# Altium schematic symbol library Power_unit-RM.SCHLIB: 24 symbols
Pins are listed as number, name and electrical type; pins without a type are passive.

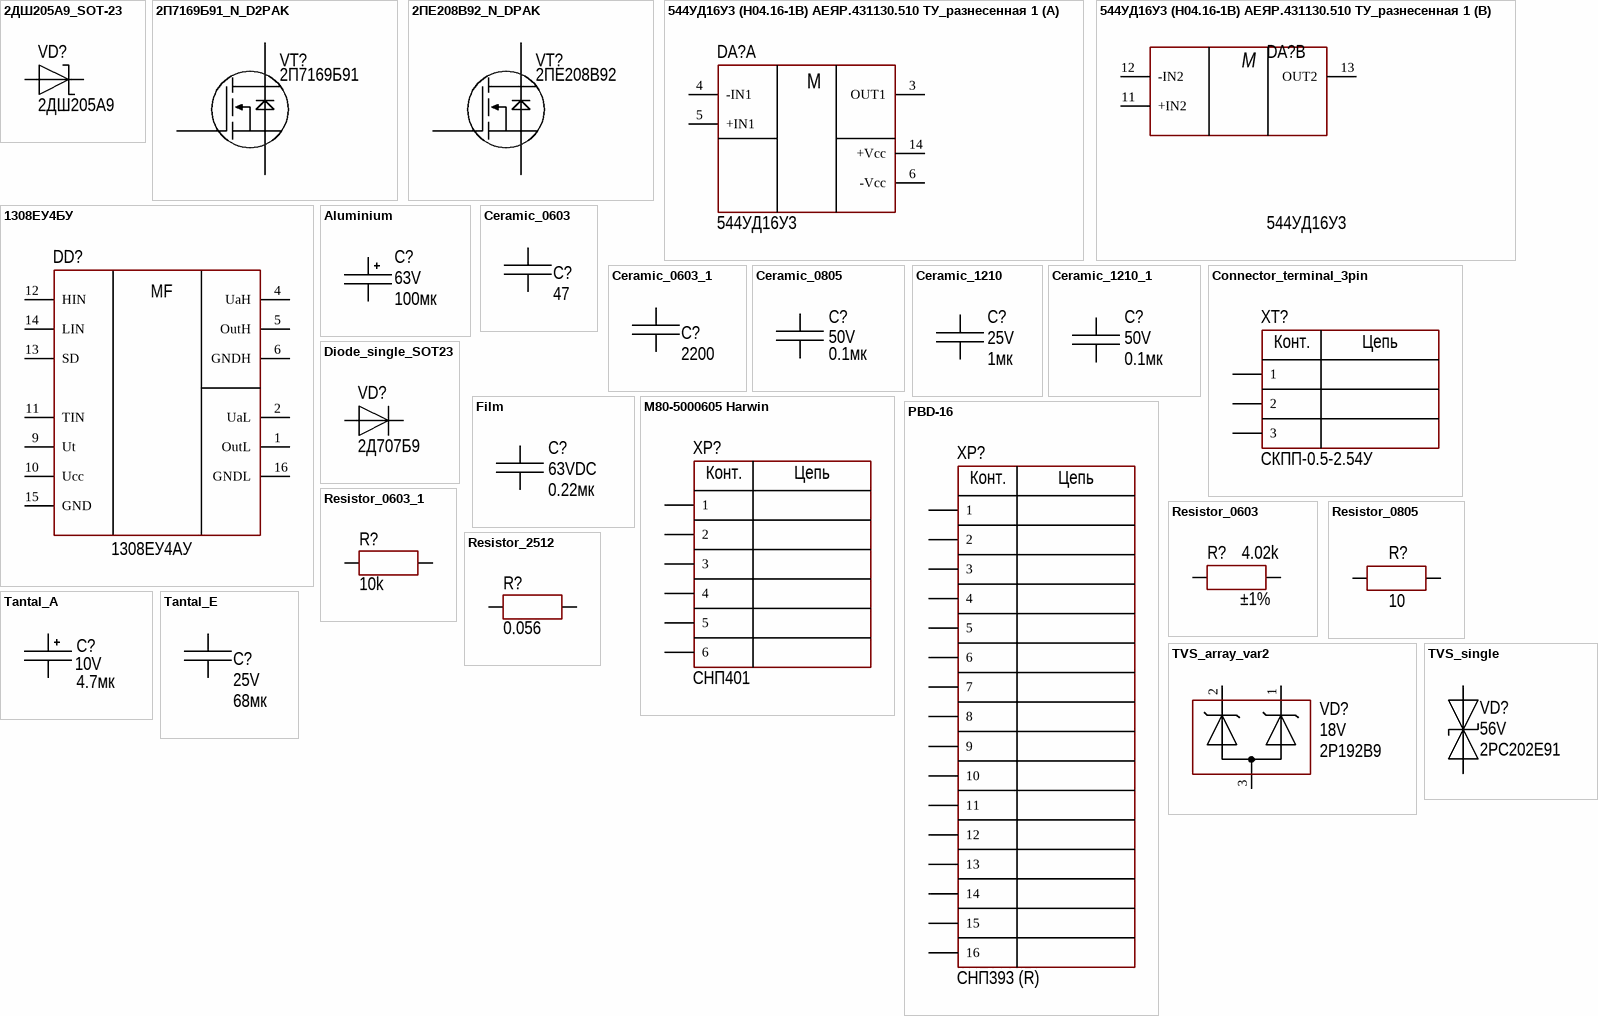
[diagram p0: symbols 2ДШ205А9_SOT-23 to TVS_single]

## 2ДШ205А9_SOT-23
designator VD?  PartNumber: 2ДШ205А9
Manufacturer: ВЗПП Воронеж; ValueManufacturerPartNumber: shottki diode, 80V, 500mA; max 5 A@1ms, 0.8V, <22ns, SOT-23, -55...+150°C; TypeDiode: shottki diode; Voltage: 80V; Current: 500mA; max 5 A@1ms; VoltageDrop: 0.8V; RecoveryTime: <22ns; Analog: MBR0580; Package: SOT-23; Temperature: -55...+150°C
footprint SOT23
pins: 1 A, 3 K

## 2П7169Б91_N_D2PAK
designator VT?  PartNumber: 2П7169Б91
Ангстрем (ВП); ValueManufacturerPartNumber: MOSFET N-channel transistor, 100V, 30A@+100°C, 110nC, 3.8W, 36mOhm, 1900pF, D2PAK (KT-90), -55...+150°C; TypeTransistor: MOSFET N-channel transistor; VoltageDS: 100V; CurrentDS: 30A@+100°C; RDS: 36mOhm; GateCharge: 110nC; InputCapacitor: 1900pF; MaxPower: 3.8W; Analog: IRF1310NS; Manufacturer: Ангстрем; Package: D2PAK (KT-90); HelpURL: https://www.infineon.com/dgdl/irf1310nspbf.pdf?fileId=5546d462533600a4015355dab12918a0; Temperature: -55...+150°C
footprint D2PAK_123 (Standart pinout)
pins: 1 G, 2 D, 3 S

## 2ПЕ208В92_N_DPAK
designator VT?  PartNumber: 2ПЕ208В92
Ангстрем (ВП); ValueManufacturerPartNumber: MOSFET N-channel transistor, 100V, 32A@+25°C, 59nC, 2.5W, 45mOhm, 3200pF, DPAK (KT-89), -55...+150°C; TypeTransistor: MOSFET N-channel transistor; VoltageDS: 100V; CurrentDS: 32A@+25°C; RDS: 45mOhm; GateCharge: 59nC; InputCapacitor: 3200pF; MaxPower: 2.5W; Analog: AnD28N10; Manufacturer: Ангстрем; Package: DPAK (KT-89); HelpURL: https://angstrem.ru/ru/and28n10; Temperature: -55...+150°C
footprint DPAK
footprint DPAK
pins: 1 G, 2 S, 3 D

## 544УД16У3 (Н04.16-1В) АЕЯР.431130.510 ТУ_разнесенная 1
designator DA?  Part_Number: 544УД16У3  (hidden comment: 544УД16У3 (Н04.16-1В) АЕЯР.431130.510 ТУ_разнесенная 1)
Op. Amp rail-to-rail; Manufacturer: НПП "Восток"; Pattern/Footprint: 16-Н04.16-1B; MAX: 00135502; Analog: OP284FS; TU: АЕЯР.431130.510 ТУ; Publisher: Sokolov; Published: 2019; HelpURL: http://www.vostok.nsk.su/files/pdf/544UD16U3.pdf; Type: Операционный усилитель
footprint 16-Н04.16-1B (USSR)
part A pins: 1 NC hidden, 2 NC hidden, 3 OUT1, 4 -IN1, 5 +IN1, 6 -Vcc (power), 7 NC hidden, 8 NC hidden, 9 NC hidden, 10 NC hidden, 14 +Vcc (power), 15 NC hidden, 16 NC hidden
part B pins: 11 +IN2, 12 -IN2, 13 OUT2
part A text: M
part B text: M

## 1308ЕУ4БУ
designator DD?  PartNumber: 1308ЕУ4АУ
Gate driver; Manufacturer: Кремний Эл; VoltageSupply: supply 4...15V; CurrentOutput: 2A; Analog: IR2113 IR; MAX: 00131005; HelpURL: http://caxapa.ru/parts/files/1SHKtJ3.pdf; Package: Н04.16-2В; ComponentType: Hight&Low side gate driver; ValueManufacturerPartNumber: =ComponentType+', '+VoltageWork+', '+Frequency+', '+CurrentOutput+', '+VoltageSupply+', '+Temperature+', '+Package
footprint 16-Н04.16-1B (USSR)
pins: 1 OutL, 2 UaL, 4 UaH, 5 OutH, 6 GNDH, 9 Ut, 10 Ucc, 11 TIN, 12 HIN, 13 SD, 14 LIN, 15 GND, 16 GNDL
text: MF

## Aluminium
designator C?  value 100мк  Voltage: 63V
Manufacturer: Элеконд; PartNumber: K50-93-63В-100мкФ ±20% -И-В АЖЯР.673541.021 ТУ; ValueManufacturerPartNumber: Aluminium capacitor, 100мк, 63V, ±20%, 0.342Ohm@100kHz, 8x11.3x3.5 mm, -60...+100°C; TypeCapacitor: Aluminium capacitor; Tolerance: ±20%; Impedance: 0.342Ohm@100kHz; MAX: 00139211; Package: 8x11.3x3.5 mm; HelpURL: https://elecond.ru/production/capacitors/aluminum/k50-93; Temperature: -60...+100°C
footprint CAP: D5C2H11
footprint CAP: D6.3C2.5H11
footprint CAP: D6.3C2.5H16
footprint CAP: D8C3.5H12
footprint CAP: D10C5H12.5
footprint CAP: D10C5H16
footprint CAP: D10C5H20
footprint CAP: D13C5H20
footprint CAP: D13C5H25
footprint CAP: D16C7.5H25
footprint CAP: D16C7.5H31.5
footprint CAP: D18C7.5H40
footprint CAP: D22C10.5H25
footprint CAP: D30C10.5H37
footprint CAP: D30C10.5H47
footprint CAP: D35C10.5H40
footprint CAP: D35C10.5H50
pins: 1 (power), 2 (power)

## Ceramic_0603
designator C?  value 47
Manufacturer: Монолит; PartNumber: К10-84в-1608М-50В-47 пФ ±10%-МП0-N-A; ValueManufacturerPartNumber: Ceramic capacitor, 47, МП0, ±10%, 50V, 0603, -55...+125°C; TypeCapacitor: Ceramic capacitor; Tolerance: ±10%; TypeDielectric: МП0; Voltage: 50V; Analog: 00124425 (pin-to-pin); Package: 0603; HelpURL: http://monolit.vitebsk.by/products/kondensatory/K1047Mabv/; Temperature: -55...+125°C
footprint CAP: 0603P (small var)
pins: 1 (power), 2 (power)

## Ceramic_0603_1
designator C?  value 2200
Manufacturer: Монолит; PartNumber: К10-84в-1608М-50В-2200 пФ ±10%-Н20-N-A; ValueManufacturerPartNumber: Ceramic capacitor, 2200, H20, ±10%, 50V, 0603, -55...+125°C; TypeCapacitor: Ceramic capacitor; Tolerance: ±10%; TypeDielectric: H20; Voltage: 50V; Analog: MAX 00132726 (pin-to-pin); Analog: MAX 00132726; Package: 0603; HelpURL: http://www.monolit.vitebsk.by/Files/K10-84.pdf; Temperature: -55...+125°C
footprint CAP: 0603P (small var)
pins: 1, 2 (power)

## Ceramic_0805
designator C?  value 0.1мк  Voltage: 50V
Manufacturer: Монолит; PartNumber: К10-84в-2012М-50В-0,1 мкФ +80/-20%-Н90-N-A; ValueManufacturerPartNumber: Ceramic capacitor, 0.1мк, Н90 (Y5V), +80 -20%, 50V, 0805 (2012), -55...+125°C; TypeCapacitor: Ceramic capacitor; Tolerance: +80 -20%; TypeDielectric: Н90 (Y5V); Analog: 00131672 (pin-to-pin); Package: 0805 (2012); HelpURL: http://monolit.vitebsk.by/products/kondensatory/K1084NOVYE/; Temperature: -55...+125°C
footprint CAP: 0805P (small footprint)
pins: 1 (power), 2 (power)

## Ceramic_1210
designator C?  value 1мк  Voltage: 25V
Manufacturer: Monolit; PartNumber: К10-84в-3225М-25~В-Н20-1 мкФ-O-A ±10% ФЦТА.673516.016 ТУ; ValueManufacturerPartNumber: Ceramic capacitor, 1мк, Н20 (X7R), ±10%, 25V, 1210, -55...+125°C; TypeCapacitor: Ceramic capacitor; Tolerance: ±10%; TypeDielectric: Н20 (X7R); Package: 1210; HelpURL: http://monolit.vitebsk.by/products/kondensatory/K1084NOVYE/; Temperature: -55...+125°C
footprint CAP: 1210
pins: 1 (power), 2 (power)

## Ceramic_1210_1
designator C?  value 0.1мк  Voltage: 50V
Manufacturer: Монолит; PartNumber: К10-84в-2012М-50В-0,1 мкФ +80/-20%-Н90-N-A; ValueManufacturerPartNumber: Ceramic capacitor, 0.1мк, Н20, ±10%, 50V, 0805,; TypeCapacitor: Ceramic capacitor; Tolerance: ±10%; TypeDielectric: Н20; Analog: MAX 00123747 (К10-17в - с1206); Package: 0805; HelpURL: http://www.monolit.vitebsk.by/Files/K10-84.pdf
footprint CAP: 0805+1206 (совмещенный)
pins: 1, 2

## Connector_terminal_3pin
designator XT?  CommentText: СКПП-0.5-2.54У
Manufacturer: Завод Атлант; ValueManufacturerPartNumber: Terminal connector, 3pin, 3.5mm, 300VAC, 6A; PartNumber: СКПП-0.5-2.54У-3x2-2 СЦНК.434410.044 ТУ; TypeConnector: Terminal connector; VoltageMax: 300VAC; Pitch: 3.5mm; CurrentMax: 6A; Multichannel: 3pin; Analog: 233-403 Wago; HelpURL: http://xn--80aaagkp6are6bd.xn--p1ai/main/soediniteli_klemmnye/klemmy_dlja_pechatnogo_montazha/skpp_05_254u_1(24)h2_2(3)
footprint CON: DG350-3.5-03P
footprint CON: 233-403 WAGO (pcb terminal strip)
footprint CON: 236-403 WAGO (pcb terminal strip)
pins: 1, 2, 3 (power)
text: Конт.; Цепь

## Diode_single_SOT23
designator VD?  PartNumber: 2Д707Б9
Manufacturer: КРИП; ValueManufacturerPartNumber: fast Single diode, 80V, 200mA; max 1.5 A, 1V, 4ns, SOT-23, -55...+150°C; TypeDiode: fast Single diode; Voltage: 80V; Current: 200mA; max 1.5 A; VoltageDrop: 1V; RecoveryTime: 4ns; Analog: BAS16; Package: SOT-23; HelpURL: https://kriptehno.ru/wp-content/uploads/2018/09/short_cat_kriptehno.pdf; Temperature: -55...+150°C
footprint SOT23
pins: 1 A, 3 K

## Film
designator C?  value 0.22мк  Voltage: 63VDC
Manufacturer: Гириконд; PartNumber: K73-17-63В-0,22мкФ±10%-В АЖЯР.673633.004 ТУ; TypeCapacitor: Film capacitor; Tolerance: ±10%; Package: 12x10 mm; HelpURL: http://www.giricond.ru/files/k73-17_.pdf; ValueManufacturerPartNumber: =TypeCapacitor+', '+Value+', '+Voltage+', '+Tolerance+', '+Impedance+', '+Package+', '+Temperature; Temperature: -60...+125°C
footprint CAP: B32021
footprint CAP: B32521
footprint CAP: AY2102M29Y5US63L7
footprint CAP: B32522
footprint CAP: B32653A
footprint CAP: B32654
footprint CAP: B32674
footprint CAP: B32676
footprint CAP: B32774D (w=15mm)
footprint CAP: B32774D (w=22mm)
footprint CAP: B32923
footprint Model Name (Footprint not found)
footprint CAP: K73-17 12x10x6 (63V, 0.22uF)
pins: 1 (power), 2 (power)

## M80-5000605 Harwin
designator XP?  CommentText: СНП401
вилка на плату; Manufacturer: Электродеталь; ValueManufacturerPartNumber: Вилка, 6pin, 2mm, 120VAC, 1.5A; PartNumber: СНП401-6ВП21-4-1-1; VoltageMax: 120VAC; Pitch: 2mm; CurrentMax: 1.5A; Multichannel: 6pin; Analog: MAX 00126397 (M80-5000605 pin-to-pin); HelpURL: https://eu.mouser.com/ProductDetail/Harwin/M80-5000605?qs=yQtJ9TWM%2F1KaJIUUBEXorg%3D%3D; TypeConnector: Вилка
footprint CON: M80-5100605 (6 pin; Harwin)
pins: 1, 2, 3, 4, 5, 6
text: Конт.; Цепь

## PBD-16
designator XP?  CommentText: СНП393 (R)
Угловой; Manufacturer: Электродеталь; ValueManufacturerPartNumber: Connector, 16pin, 2.54mm, 500VAC, 3A; PartNumber: СНП393-16ВП31-2-01-5 РЮМК.430420.035 ТУ; TypeConnector: Connector; VoltageMax: 500VAC; Pitch: 2.54mm; CurrentMax: 3A; Multichannel: 16pin; Analog: MAX 000724477 (PLD-80R с доработкой до 16pin); HelpURL: https://www.elektrodetal.com/catalog/snp393/
footprint CON: PBD-16 (PBD-16)
footprint CON: PLD-16R
pins: 1, 2, 3, 4, 5, 6, 7, 8, 9, 10, 11, 12, 13, 14, 15, 16
text: Конт.; Цепь

## Resistor_0603
designator R?  value 4.02k  Tolerance: ±1%
Manufacturer: ОАО Ресурс; PartNumber: Р1-12-0,1ум.-4.02~кОм±1%-М ШКАБ.434110.002 ТУ; ValueManufacturerPartNumber: Resistor film, 4.02k, ±1%, 0603, 0.1W, -55...+125°C; TypeResistor: Resistor film; Power: 0.1W; MAX: 00134054; Package: 0603; HelpURL: https://aoresurs.com/catalog/chip_rezistory/rezistory-r1-12-kategoriya-kachestva-vp-/; Temperature: -55...+125°C
footprint RES: 0603P (small footprint)
pins: 1, 2

## Resistor_0603_1
designator R?  value 10k
Manufacturer: ОАО Ресурс; PartNumber: Р1-12-0,125-10~кОм ±1%-М ШКАБ.434110.002 ТУ; ValueManufacturerPartNumber: Resistor film, 10k, ±1%, 0805, 0.125W, -55...+125°C; TypeResistor: Resistor film; Power: 0.125W; Tolerance: ±1%; MAX: 00134578; Package: 0805; HelpURL: https://aoresurs.com/catalog/chip_rezistory/rezistory-r1-12-kategoriya-kachestva-vp-/; Temperature: -55...+125°C
pins: 1, 2

## Resistor_0805
designator R?  value 10
Manufacturer: ОАО Ресурс; PartNumber: Р1-12-0,125-10 Ом ±5%-М ШКАБ.434110.002 ТУ; ValueManufacturerPartNumber: Resistor film, 10, ±5%, 0805, 0.125W, -55...+125°C; TypeResistor: Resistor film; Power: 0.125W; Tolerance: ±5%; MAX: 00123032; Package: 0805; HelpURL: https://aoresurs.com/catalog/chip_rezistory/rezistory-r1-12-kategoriya-kachestva-vp-/; Temperature: -55...+125°C
footprint RES: 0805P (small footprint)
pins: 1, 2

## Resistor_2512
designator R?  value 0.056
PartNumber: Р1-105-0,75-0,056 Ом±1% А РМУ.434150.001 ТУ; ValueManufacturerPartNumber: Resistor film, 0.056, ±1%, 2512, 0.75W, -55...+125°C; TypeResistor: Resistor film; Power: 0.75W; Tolerance: ±1%; Package: 2512; HelpURL: https://www.digikey.com/product-detail/en/yageo/RC2512JK-07100RL/YAG3393CT-ND/5962215; Temperature: -55...+125°C
footprint RES: 2512
pins: 1, 2

## Tantal_A
designator C?  value 4.7мк  Voltage: 10V
Manufacturer: Элеконд; PartNumber: К53-68 "А"-10 В-4.7 мкф; ValueManufacturerPartNumber: Tantalum capacitor, 4.7мк, 10V, ±10%, 2Ohm, case A (3216), -55...+125°C; Impedance: 2Ohm; Tolerance: ±10%; TypeDielectric: X7R; TypeCapacitor: Tantalum capacitor; MAX: 00130629; Package: case A (3216); HelpURL: https://www.digikey.com/product-detail/en/avx-corporation/F930J107KAAAJ6/478-12404-1-ND/9645231; Temperature: -55...+125°C
footprint CAP: TANTAL-A
pins: 1 (power), 2 (power)

## Tantal_E
designator C?  value 68мк  Voltage: 25V
Manufacturer: Элеконд; PartNumber: К53-68 "E"-25 В-68 мкф ±10%; ValueManufacturerPartNumber: Tantalum capacitor, 68мк, 25V, ±10%, 900mOhm, case E, -60...+125°C; Impedance: 900mOhm; Tolerance: ±10%; TypeCapacitor: Tantalum capacitor; MAX: 00145468; Package: case E; HelpURL: https://eandc.ru/pdf/kondensator/k53-68.pdf; Temperature: -60...+125°C
footprint CAP: TANTAL-E
pins: 1 (power), 2 (power)

## TVS_array_var2
designator VD?  Voltage: 18V  PartNumber: 2Р192В9
Manufacturer: КРИП; TypeDiode: TVS diode; Current: 1A; Uогр.: 22.5V; Cap: 21pF; NOTE: указано для pin1-pin3; Analog: КР192А9 (ОТК) (pin-to-pin); Package: SOT-23; ValueManufacturerPartNumber: =TypeDiode+', '+Voltage+', '+Current+', '+VoltageDrop+', '+RecoveryTime+', '+Package+', '+Temperature; Temperature: -55...+150°C
footprint SOT23
pins: 1 K1, 2 K2, 3 A

## TVS_single
designator VD?  Voltage: 56V  PartNumber: 2РС202Е91
Manufacturer: ВЗПП; TypeDiode: Zener diode; Current: 8A; VoltageDrop: 0.9V; Analog: SMBJ48CA (pin-to-pin); Package: SMB; HelpURL: http://www.nzpp.ru/product/; ValueManufacturerPartNumber: =TypeDiode+', '+Voltage+', '+Current+', '+VoltageDrop+', '+RecoveryTime+', '+Package+', '+Temperature; Temperature: -55...+150°C
footprint DIODE: SMA
footprint DIODE: SMB
footprint DIODE: SMC
footprint DIODE: SOD80
footprint DIODE: SOD123
footprint DIODE: SOD123F
footprint DIODE: SOD123W
footprint DIODE: SOD323
footprint DIODE: SOD523
pins: 1 A, 2 C